# Altium schematic symbol library IC.SchLib: 67 symbols
Pins are listed as number, name and electrical type; pins without a type are passive.

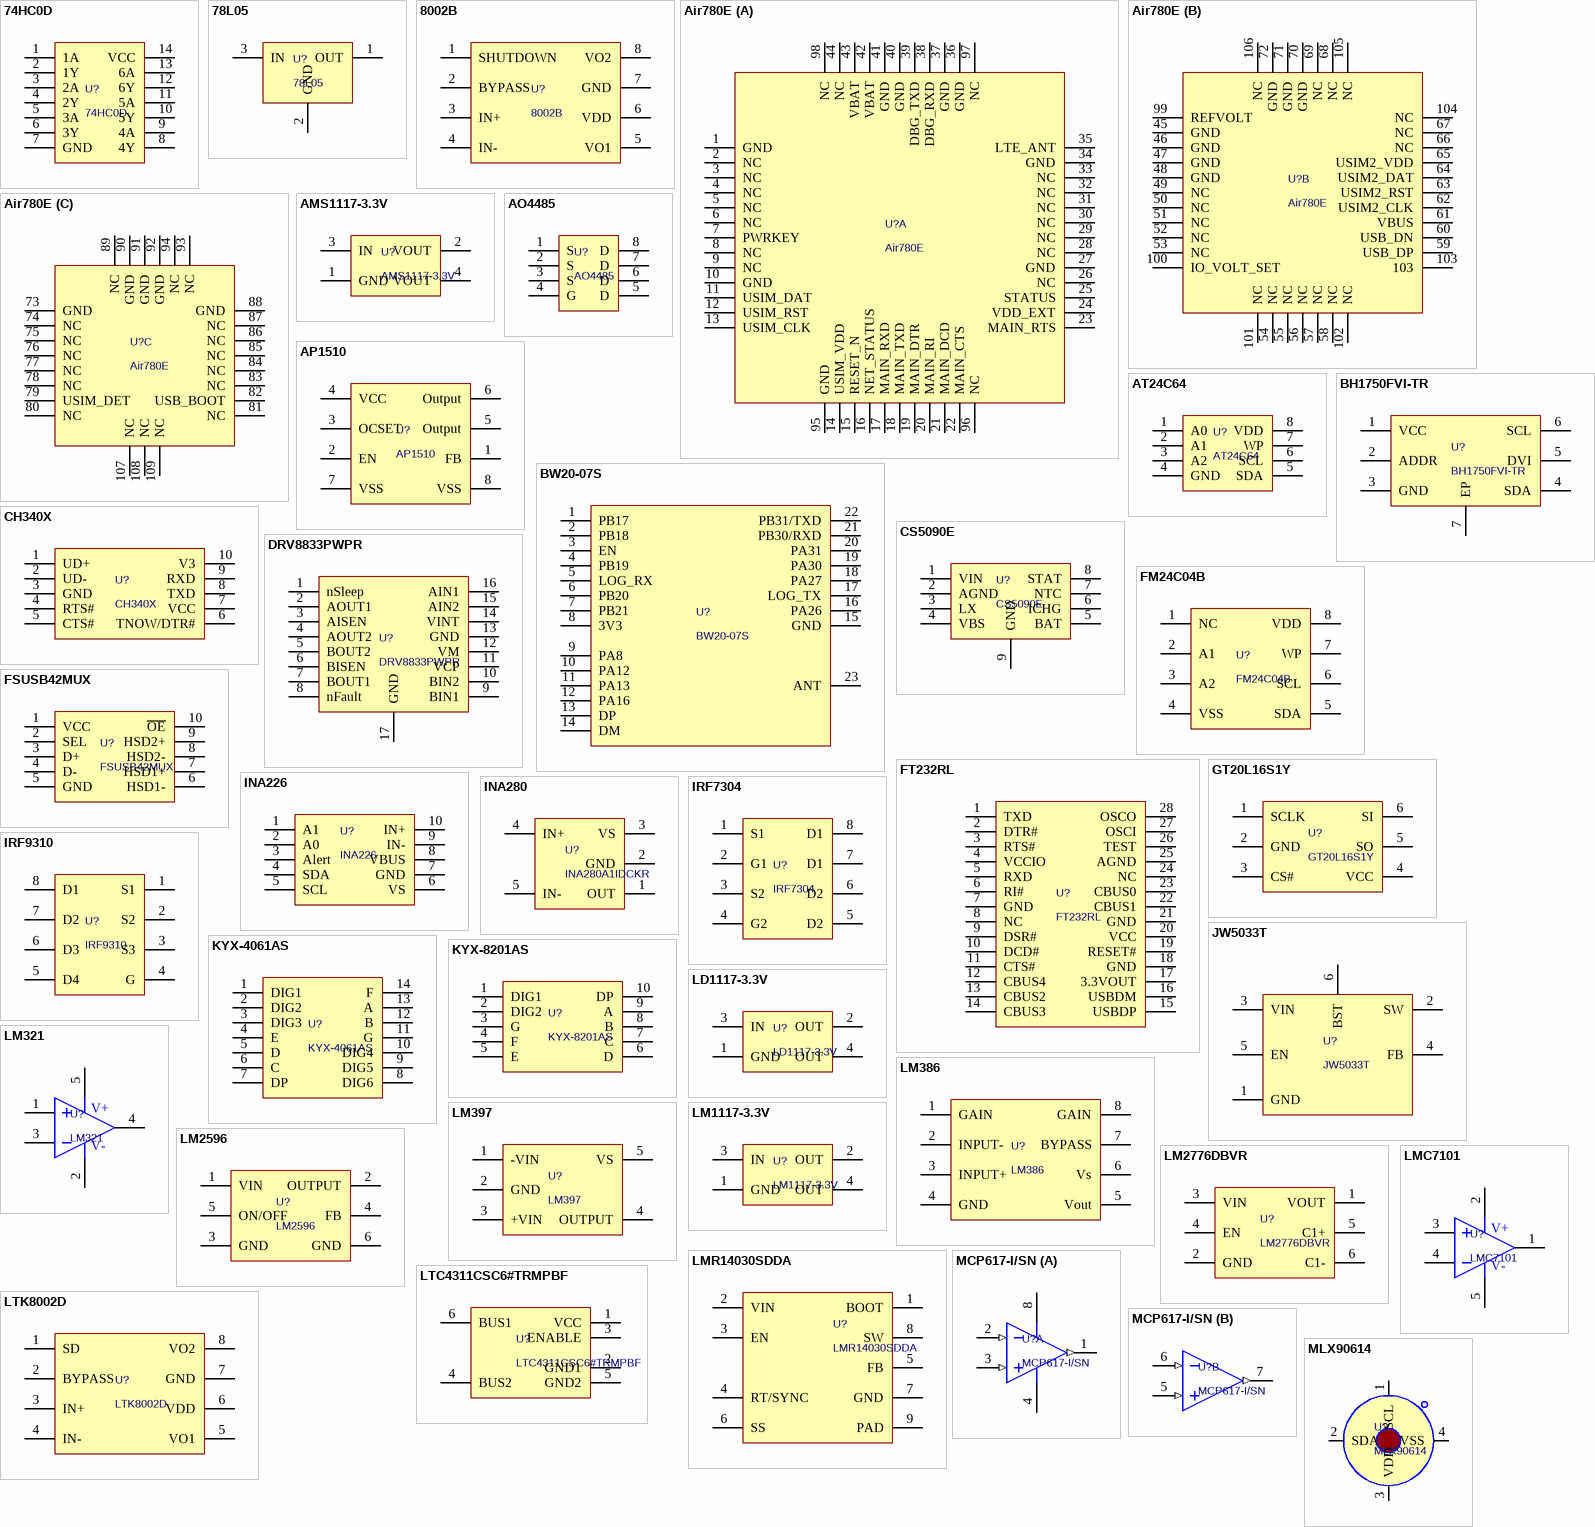
[diagram p0: symbols 74HC0D to MLX90614]

## 74HC0D
designator U?
反相器; Value_Footprint: SOIC-14; Value: 74HC0D; State: *; ComponentLink1Description: DataSheet; ComponentLink1URL: https://item.szlcsc.com/datasheet/74HC04D%252C653/6041.html?spm=sc.gb.xds.a___sc.gb.hd.ss&lcsc_vid=QVIKAgBVFVddAQYCE1ZcA1QDEVhYVwUFTlcIU11UT1QxVlNST1VWXlBXRFBcXjtW
footprint SOT-89-3
footprint SOIC-14
pins: 1 1A, 2 1Y, 3 2A, 4 2Y, 5 3A, 6 3Y, 7 GND, 8 4Y, 9 4A, 10 5Y, 11 5A, 12 6Y, 13 6A, 14 VCC

## 78L05
designator U?
LDO-5V; Value_Footprint: SOT-89-3; Value: 78L05; State: *; ComponentLink1Description: DataSheet; ComponentLink1URL: https://item.szlcsc.com/datasheet/78L05/323918.html
footprint SOT-89-3
pins: 1 OUT, 2 GND, 3 IN

## 8002B
designator U?
AB类功放; Value_Footprint: SOP-8; Value: 8002B; State: *; ComponentLink1Description: DataSheet; ComponentLink1URL: https://item.szlcsc.com/datasheet/8002B/309703.html
footprint SOP-8
pins: 1 SHUTDOWN, 2 BYPASS, 3 IN+, 4 IN-, 5 VO1, 6 VDD, 7 GND, 8 VO2

## Air780E
designator U?
合宙云Air780E; Value: Air780E; State: *; Value_Footprint: Air780E; ComponentLink1Description: DataSheet; ComponentLink1URL: https://docs.openluat.com/air780e/
footprint Air780E
part A pins: 1 GND, 2 NC, 3 NC, 4 NC, 5 NC, 6 NC, 7 PWRKEY, 8 NC, 9 NC, 10 GND, 11 USIM_DAT, 12 USIM_RST, 13 USIM_CLK, 14 USIM_VDD, 15 RESET_N, 16 NET_STATUS, 17 MAIN_RXD, 18 MAIN_TXD, 19 MAIN_DTR, 20 MAIN_RI, 21 MAIN_DCD, 22 MAIN_CTS, 23 MAIN_RTS, 24 VDD_EXT, 25 STATUS, 26 NC, 27 GND, 28 NC, 29 NC, 30 NC, 31 NC, 32 NC, 33 NC, 34 GND, 35 LTE_ANT, 36 GND, 37 GND, 38 DBG_RXD, 39 DBG_TXD, 40 GND, 41 GND, 42 VBAT, 43 VBAT, 44 NC, 95 GND, 96 NC, 97 NC, 98 NC
part B pins: 45 GND, 46 GND, 47 GND, 48 GND, 49 NC, 50 NC, 51 NC, 52 NC, 53 NC, 54 NC, 55 NC, 56 NC, 57 NC, 58 NC, 59 USB_DP, 60 USB_DN, 61 VBUS, 62 USIM2_CLK, 63 USIM2_RST, 64 USIM2_DAT, 65 USIM2_VDD, 66 NC, 67 NC, 68 NC, 69 NC, 70 GND, 71 GND, 72 GND, 99 REFVOLT, 100 IO_VOLT_SET, 101 NC, 102 NC, 103, 104 NC, 105 NC, 106 NC
part C pins: 73 GND, 74 NC, 75 NC, 76 NC, 77 NC, 78 NC, 79 USIM_DET, 80 NC, 81 NC, 82 USB_BOOT, 83 NC, 84 NC, 85 NC, 86 NC, 87 NC, 88 GND, 89 NC, 90 GND, 91 GND, 92 GND, 93 NC, 94 NC, 107 NC, 108 NC, 109 NC

## AMS1117-3.3V
designator U?
LDO-3V3; Value_Footprint: SOT-223; Value: AMS1117-3.3V; State: *; ComponentLink1Description: DataSheet; ComponentLink1URL: https://item.szlcsc.com/datasheet/AMS1117-3.3V/5706124.html
footprint SOT-223-3
pins: 1 GND, 2 VOUT, 3 IN, 4 VOUT

## AO4485
designator U?
PMOS; Value_Footprint: SOP-8; Value: AO4485; State: *; ComponentLink1Description: DataSheet; ComponentLink1URL: https://item.szlcsc.com/datasheet/AO4485/52512.html?spm=sc.cid.xds.a___sc.gb.xh1.zy.l&lcsc_vid=RVMPXlFWT1ZYBVAARlFWUlRWEVVfVAdWQQcNVwVVFQQxVlNSRlFZV1xVR1JdUTtW
footprint SOP-8
pins: 1 S, 2 S, 3 S, 4 G, 5 D, 6 D, 7 D, 8 D

## AP1510
designator U?
DC-DC; Value_Footprint: SO-8; Value: AP1510; State: *; ComponentLink1Description: DataSheet; ComponentLink1URL: https://item.szlcsc.com/datasheet/AP1510SG-13/532982.html
footprint SO-8
pins: 1 FB, 2 EN, 3 OCSET, 4 VCC, 5 Output, 6 Output, 7 VSS, 8 VSS

## AT24C64
designator U?
EEPROM; Value_Footprint: SOP-8; Value: AT24C64; State: *; ComponentLink1Description: DataSheet; ComponentLink1URL: https://atta.szlcsc.com/upload/public/pdf/source/20230919/9E697A72AB35897169BECDE1C243D87A.pdf
footprint SOP-8
pins: 1 A0, 2 A1, 3 A2, 4 GND, 5 SDA, 6 SCL, 7 WP, 8 VDD

## BH1750FVI-TR
designator U?
环境光Sensor; Value_Footprint: WSOF-6; Value: BH1750FVI-TR; State: *; ComponentLink1Description: DataSheet; ComponentLink1URL: https://atta.szlcsc.com/upload/public/pdf/source/20160723/1469258984787.pdf
footprint WSOF-6
pins: 1 VCC, 2 ADDR, 3 GND, 4 SDA, 5 DVI, 6 SCL, 7 EP

## BW20-07S
designator U?
wifi&蓝牙双模; Value_Footprint: SMD; Value: BW20-07S; State: *; ComponentLink1Description: DataSheet; ComponentLink1URL: https://docs.ai-thinker.com/rtl87xx
footprint BW20-07S
pins: 1 PB17, 2 PB18, 3 EN, 4 PB19, 5 LOG_RX, 6 PB20, 7 PB21, 8 3V3, 9 PA8, 10 PA12, 11 PA13, 12 PA16, 13 DP, 14 DM, 15 GND, 16 PA26, 17 LOG_TX, 18 PA27, 19 PA30, 20 PA31, 21 PB30/RXD, 22 PB31/TXD, 23 ANT

## CH340X
designator U?
USB转换芯片; Value_Footprint: MSOP-10; Value: CH340X; State: *; ComponentLink1Description: DataSheet; ComponentLink1URL: https://item.szlcsc.com/datasheet/CH340X/3584030.html?spm=sc.gbn.xds.a___sc.gbn.hd.ss&lcsc_vid=QVIKAgBVFVddAQYCE1ZcA1QDEVhYVwUFTlcIU11UT1QxVlNTR1hXVVFWT1dZUztW
footprint MSOP-10
pins: 1 UD+, 2 UD-, 3 GND, 4 RTS#, 5 CTS#, 6 TNOW/DTR#, 7 VCC, 8 TXD, 9 RXD, 10 V3

## CS5090E
designator U?
升压锂电池充电IC; Value_Footprint: SOP-8-EP; Value: CS5090E; State: *; ComponentLink1Description: DataSheet; ComponentLink1URL: http://m.szczkjgs.com/products_3834.htm
footprint SOP-8-EP
pins: 1 VIN, 2 AGND, 3 LX, 4 VBS, 5 BAT, 6 ICHG, 7 NTC, 8 STAT, 9 GND

## DRV8833PWPR
designator U?
步进电机驱动; Value_Footprint: TSSOP-16-EP; Value: DRV8833PWPR; State: *; ComponentLink1Description: DataSheet; ComponentLink1URL: https://www.ti.com/cn/lit/ds/symlink/drv8833.pdf?ts=1751263447587&ref_url=https%253A%252F%252Fitem.szlcsc.com%252F
footprint TSSOP-16-EP
pins: 1 nSleep, 2 AOUT1, 3 AISEN, 4 AOUT2, 5 BOUT2, 6 BISEN, 7 BOUT1, 8 nFault, 9 BIN1, 10 BIN2, 11 VCP, 12 VM, 13 GND, 14 VINT, 15 AIN2, 16 AIN1, 17 GND

## FM24C04B
designator U?
温度Sensor; Value_Footprint: SOIC-8-150mil; Value: FM24C04B; State: *; ComponentLink1Description: DataSheet; ComponentLink1URL: https://item.szlcsc.com/datasheet/FM24C04B-GTR/10356.html
footprint SOIC-8-150mil
pins: 1 NC, 2 A1, 3 A2, 4 VSS, 5 SDA, 6 SCL, 7 WP, 8 VDD

## FSUSB42MUX
designator U?
多路复用器; Value_Footprint: MSOP-10; Value: FSUSB42MUX; State: *; ComponentLink1Description: DataSheet; ComponentLink1URL: https://atta.szlcsc.com/upload/public/pdf/source/20130225/1457706594597.pdf
footprint MSOP-10
pins: 1 VCC, 2 SEL, 3 D+, 4 D-, 5 GND, 6 HSD1-, 7 HSD1+, 8 HSD2-, 9 HSD2+, 10 ~{OE}

## FT232RL
designator U?
USB转UART; Value_Footprint: SSOP-28-208mil; Value: FT232RL; State: *; ComponentLink1Description: DataSheet; ComponentLink1URL: https://atta.szlcsc.com/upload/public/pdf/source/20200318/C490691_690E4DF63E1AFF9F26AE376DE8985AE3.pdf
footprint SSOP-28-208mil
pins: 1 TXD, 2 DTR#, 3 RTS#, 4 VCCIO, 5 RXD, 6 RI#, 7 GND, 8 NC, 9 DSR#, 10 DCD#, 11 CTS#, 12 CBUS4, 13 CBUS2, 14 CBUS3, 15 USBDP, 16 USBDM, 17 3.3VOUT, 18 GND, 19 RESET#, 20 VCC, 21 GND, 22 CBUS1, 23 CBUS0, 24 NC, 25 AGND, 26 TEST, 27 OSCI, 28 OSCO

## GT20L16S1Y
designator U?
字库; Value_Footprint: SOT-23-6; Value: GT20L16S1Y; State: *; ComponentLink1Description: DataSheet; ComponentLink1URL: https://item.szlcsc.com/datasheet/GT20L16S1Y/88017.html
footprint SOT-23-6
pins: 1 SCLK, 2 GND, 3 CS#, 4 VCC, 5 SO, 6 SI

## INA226
designator U?
电流感应放大器; Value_Footprint: MSOP-10; Value: INA226; State: *; ComponentLink1Description: DataSheet; ComponentLink1URL: https://www.ti.com/cn/lit/ds/symlink/ina226.pdf?ts=1700096903619&ref_url=https%253A%252F%252Fso.szlcsc.com%252F
footprint MSOP-10
pins: 1 A1, 2 A0, 3 Alert, 4 SDA, 5 SCL, 6 VS, 7 GND, 8 VBUS, 9 IN-, 10 IN+

## INA280
designator U?, comment INA280A1IDCKR
电流感应放大器; Value_Footprint: SC-70-5; Value: INA280A1IDCKR; State: *; ComponentLink1Description: DataSheet; ComponentLink1URL: https://www.ti.com/cn/lit/ds/symlink/ina280.pdf?ts=1703044419089&ref_url=https%253A%252F%252Fso.szlcsc.com%252F
footprint SC-70-5
pins: 1 OUT, 2 GND, 3 VS, 4 IN+, 5 IN-

## IRF7304
designator U?
双沟道P-MOS; Value_Footprint: SOP-8; Value: IRF7304; State: *; ComponentLink1Description: DataSheet; ComponentLink1URL: https://atta.szlcsc.com/upload/public/pdf/source/20190819/C413495_9A3C8F37797B9BB4362DB44F93925947.pdf
footprint SOP-8
pins: 1 S1, 2 G1, 3 S2, 4 G2, 5 D2, 6 D2, 7 D1, 8 D1

## IRF9310
designator U?
单沟道P-MOS; Value_Footprint: SOP-8; Value: IRF9310; State: *; ComponentLink1Description: DataSheet; ComponentLink1URL: https://atta.szlcsc.com/upload/public/pdf/source/20231109/8B80510B8986664F41BF5C5829821B45.pdf
footprint SOP-8
pins: 1 S1, 2 S2, 3 S3, 4 G, 5 D4, 6 D3, 7 D2, 8 D1

## JW5033T
designator U?
DC-DC; Value_Footprint: TSOT-23-6; Value: JW5033T; State: *; ComponentLink1Description: DataSheet; ComponentLink1URL: https://item.szlcsc.com/datasheet/JW5033T/248926.html?spm=sc.gb.xds.a___sc.gb.hd.ss&lcsc_vid=QVIKAgBVFVddAQYCE1ZcA1QDEVhYVwUFTlcIU11UT1QxVlNSQFZWXl1WTlRfVjsOAxUeFF5JWBYZEEoVDQ0NFAdIFA4DSA%3D%3D
footprint TSOT-23-6
footprint TSOT-23-6
pins: 1 GND, 2 SW, 3 VIN, 4 FB, 5 EN, 6 BST

## KYX-4061AS
designator U?
6位数码管0.4英寸; Value_Footprint: DIP-14; Value: KYX-4061AS; State: *; ComponentLink1Description: DataSheet; ComponentLink1URL: https://item.taobao.com/item.htm?id=707846884960
pins: 1 DIG1, 2 DIG2, 3 DIG3, 4 E, 5 D, 6 C, 7 DP, 8 DIG6, 9 DIG5, 10 DIG4, 11 G, 12 B, 13 A, 14 F

## KYX-8201AS
designator U?
2位数码管0.8英寸; Value_Footprint: DIP-14; Value: KYX-8201AS; State: *; ComponentLink1Description: DataSheet; ComponentLink1URL: https://item.taobao.com/item.htm?id=35442677165
pins: 1 DIG1, 2 DIG2, 3 G, 4 F, 5 E, 6 D, 7 C, 8 B, 9 A, 10 DP

## LD1117-3.3V
designator U?
LDO-3V3; Value_Footprint: SOT-223-3; Value: LD1117-3.3V; State: *; ComponentLink1Description: DataSheet; ComponentLink1URL: https://item.szlcsc.com/datasheet/LD1117S33CTR/36855.html
footprint SOT-223-3
pins: 1 GND, 2 OUT, 3 IN, 4 OUT

## LM321
designator U?
运放; Value_Footprint: SOT-23-5; Value: LM321; State: *; ComponentLink1Description: DataSheet; ComponentLink1URL: https://www.ti.com/cn/lit/ds/symlink/lm321.pdf?ts=1749603008196
footprint SOT-23-5
pins: 1 IN+ (power), 2 V- (power), 3 IN- (power), 4 OUT (power), 5 V+ (power)

## LM386
designator U?
AB类功放; Value_Footprint: SOIC-8-150mil; Value: LM386; State: *; ComponentLink1Description: DataSheet; ComponentLink1URL: https://www.ti.com/cn/lit/ds/symlink/lm386.pdf?ts=1741046550326&ref_url=https%253A%252F%252Fso.szlcsc.com%252F
footprint SOIC-8
pins: 1 GAIN, 2 INPUT-, 3 INPUT+, 4 GND, 5 Vout, 6 Vs, 7 BYPASS, 8 GAIN

## LM397
designator U?
比较器; Value_Footprint: SOT-23-5; Value: LM397; State: *; ComponentLink1Description: DataSheet; ComponentLink1URL: https://www.ti.com/cn/lit/ds/symlink/lm397.pdf?ts=1748850122112&ref_url=https%253A%252F%252Fso.szlcsc.com%252F
footprint SOT-23-5
pins: 1 -VIN, 2 GND, 3 +VIN, 4 OUTPUT, 5 VS

## LM1117-3.3V
designator U?
LDO-3V3; Value_Footprint: SOT-223-3; Value: LM1117-3.3V; State: *; ComponentLink1Description: DataSheet; ComponentLink1URL: https://www.ti.com/cn/lit/ds/symlink/lm1117.pdf?ts=1699403315756&ref_url=https%253A%252F%252Fso.szlcsc.com%252F
footprint SOT-223-3
pins: 1 GND, 2 OUT, 3 IN, 4 OUT

## LM2596
designator U?
DC-DC; Value_Footprint: TO-263-5; Value: LM2596; State: *; ComponentLink1Description: DataSheet; ComponentLink1URL: https://www.ti.com/cn/lit/ds/symlink/lm2596.pdf?ts=1740638311012&ref_url=https%253A%252F%252Fwww.ti.com%252Fproduct%252Fzh-cn%252FLM2596%253FkeyMatch%253DLM2596%2526tisearch%253Duniversal_search%2526usecase%253DGPN-ALT
footprint TO-263-5
pins: 1 VIN, 2 OUTPUT, 3 GND, 4 FB, 5 ON/OFF, 6 GND

## LM2776DBVR
designator U?
反相器; Value_Footprint: SOT-23-6; Value: LM2776DBVR; State: *; ComponentLink1Description: DataSheet; ComponentLink1URL: https://www.ti.com/cn/lit/ds/symlink/lm2776.pdf?ts=1700118889826&ref_url=https%253A%252F%252Fso.szlcsc.com%252F
footprint SOT-23-6
pins: 1 VOUT, 2 GND, 3 VIN, 4 EN, 5 C1+, 6 C1-

## LMC7101
designator U?
运放; Value_Footprint: SOT-23-5; Value: LMC7101; State: *; ComponentLink1Description: DataSheet; ComponentLink1URL: https://www.ti.com/cn/lit/ds/symlink/lmc7101.pdf?ts=1749709572332&ref_url=https%253A%252F%252Fso.szlcsc.com%252F
footprint SOT-23-5
pins: 1 OUT (power), 2 V+ (power), 3 IN+ (power), 4 IN- (power), 5 V- (power)

## LMR14030SDDA
designator U?
DC-DC; Value_Footprint: SO-8-EP; Value: LMR14030SDDA; State: *; ComponentLink1Description: DataSheet; ComponentLink1URL: https://www.ti.com/cn/lit/ds/symlink/lmr14030.pdf?ts=1703734262438&ref_url=https%253A%252F%252Flist.szlcsc.com%252F
footprint SO-8-EP
pins: 1 BOOT, 2 VIN, 3 EN, 4 RT/SYNC, 5 FB, 6 SS, 7 GND, 8 SW, 9 PAD

## LTC4311CSC6#TRMPBF
designator U?
信号中继器; Value_Footprint: SC-70-6; Value: LTC4311CSC6#TRMPBF; State: *; ComponentLink1Description: DataSheet; ComponentLink1URL: https://atta.szlcsc.com/upload/public/pdf/source/20200917/C688093_6F50F7943BC708E0A1A0977BB3FF79B5.pdf
footprint SC-70-6
pins: 1 VCC, 2 GND1, 3 ENABLE, 4 BUS2, 5 GND2, 6 BUS1

## LTK8002D
designator U?
AB类功放; Value_Footprint: SOP-8; Value: LTK8002D; State: *; ComponentLink1Description: DataSheet; ComponentLink1URL: https://www.semiee.com/file2/ab38f395d0f13b49c099b181d624ebbf/Ltkchip/Ltkchip-LTK8002D_CN_V1.8.pdf
footprint SOP-8
pins: 1 SD, 2 BYPASS, 3 IN+, 4 IN-, 5 VO1, 6 VDD, 7 GND, 8 VO2

## MCP617-I/SN
designator U?
双路运放; Value_Footprint: SOIC-8; Value: MCP617-I/SN; State: *; ComponentLink1Description: DataSheet; ComponentLink1URL: https://atta.szlcsc.com/upload/public/pdf/source/20210611/B67836F29D7BDE203E45645A40A58186.pdf
footprint SOIC-8
part A pins: 1 VOUTA (out), 2 VINA- (in), 3 VINA+ (in), 4 VSS (power), 8 VDD (power)
part B pins: 5 VINB+ (in), 6 VINB- (in), 7 VOUTB (out)

## MLX90614
designator U?
温度Sensor; Value_Footprint: TO-39-4; Value: MLX90614; State: *; ComponentLink1Description: DataSheet; ComponentLink1URL: https://atta.szlcsc.com/upload/public/pdf/source/20200318/C492243_14CC73DF6ABA6AF766A3466641F2E2B5.pdf
footprint TO_39_4_MLX90614
pins: 1 SCL, 2 SDA, 3 VDD, 4 VSS

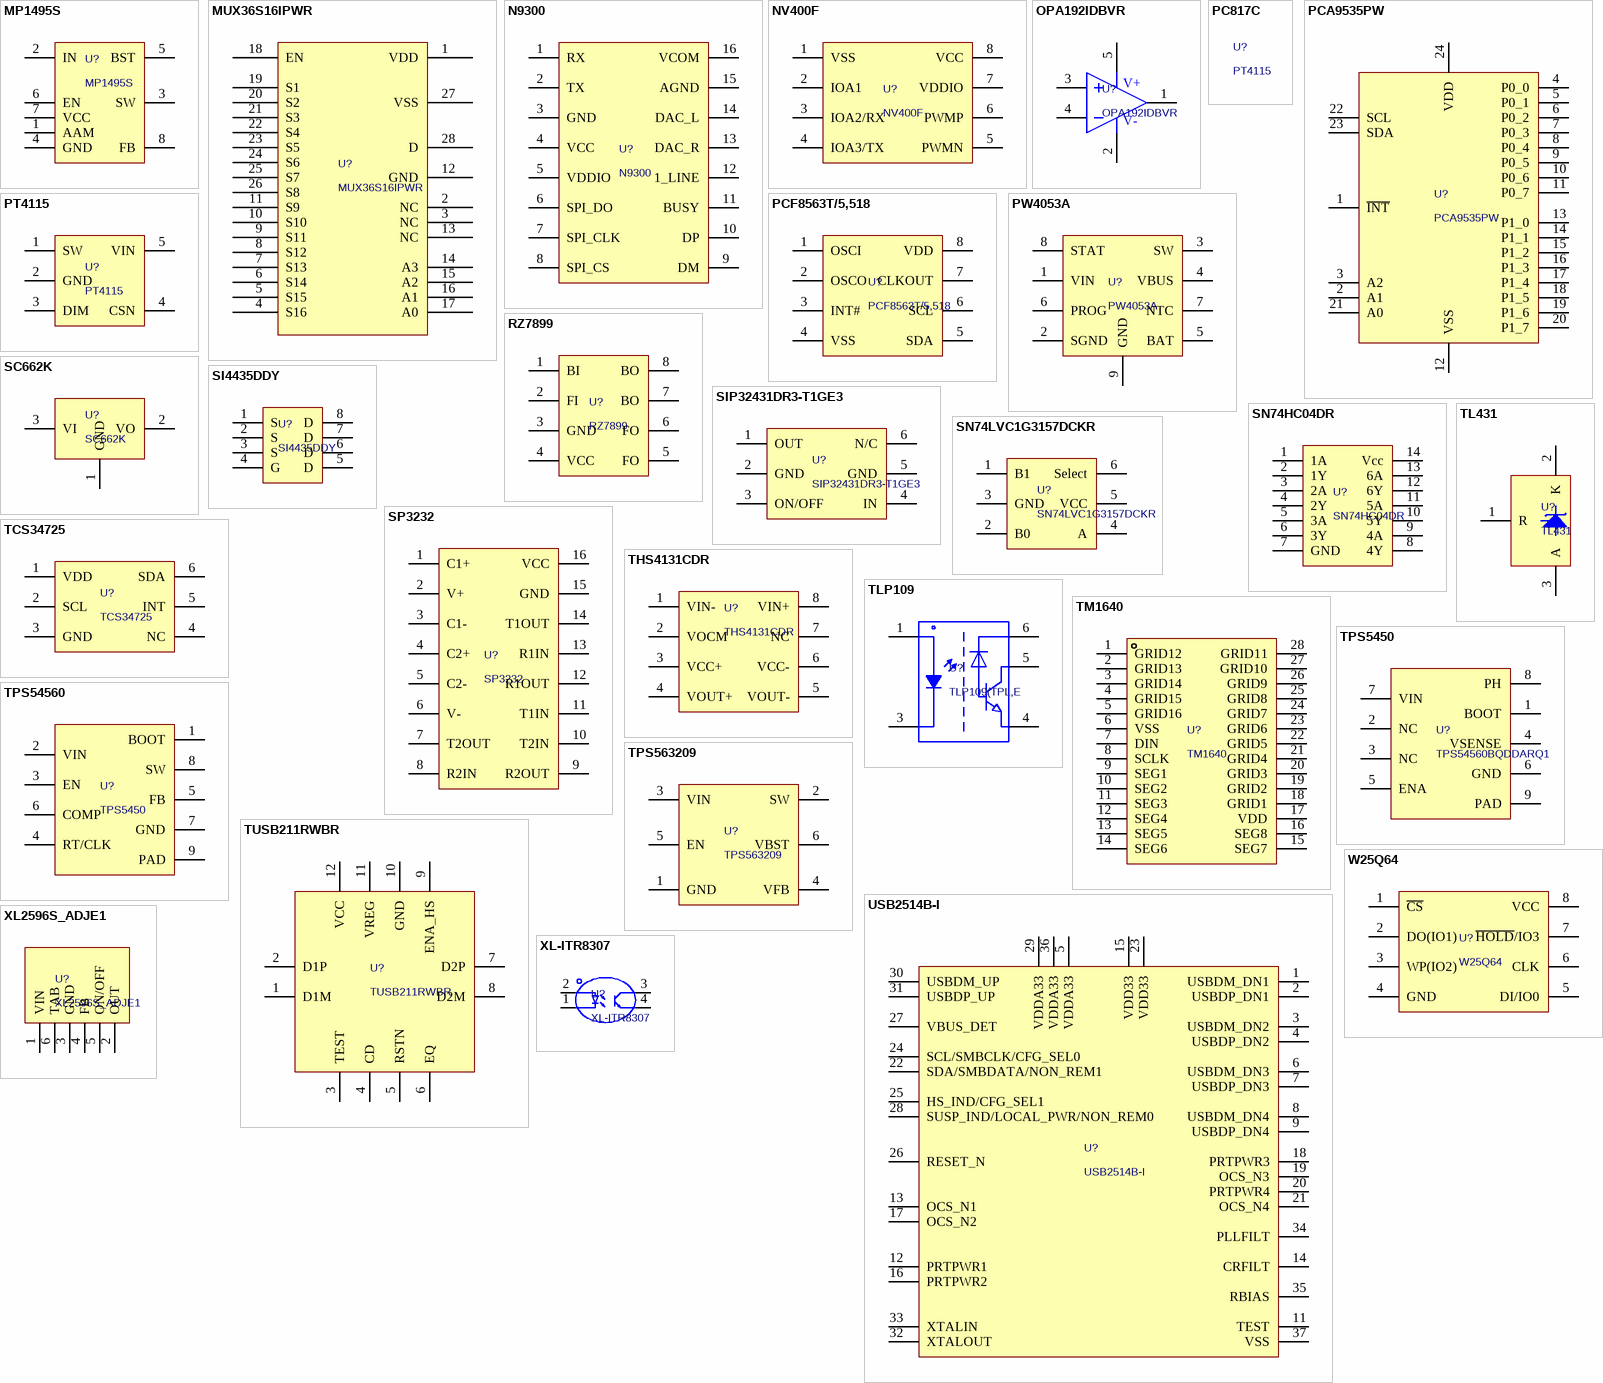
[diagram p1: symbols MP1495S to XL-ITR8307]

## MP1495S
designator U?
DC-DC; Value_Footprint: TSOT-23-8; Value: MP1495S; State: *; ComponentLink1Description: DataSheet; ComponentLink1URL: https://atta.szlcsc.com/upload/public/pdf/source/20240130/0683AD20DB573F5A3C2E240288B20C97.pdf
footprint TSOT-23-8
pins: 1 AAM, 2 IN, 3 SW, 4 GND, 5 BST, 6 EN, 7 VCC, 8 FB

## MUX36S16IPWR
designator U?
多路复用器; Value_Footprint: TSSOP-28; Value: MUX36S16IPWR; State: *; ComponentLink1Description: DataSheet; ComponentLink1URL: https://www.ti.com/cn/lit/ds/symlink/mux36d08.pdf?ts=1700121838735&ref_url=https%253A%252F%252Fso.szlcsc.com%252F
footprint TSSOP-28
pins: 1 VDD, 2 NC, 3 NC, 4 S16, 5 S15, 6 S14, 7 S13, 8 S12, 9 S11, 10 S10, 11 S9, 12 GND, 13 NC, 14 A3, 15 A2, 16 A1, 17 A0, 18 EN, 19 S1, 20 S2, 21 S3, 22 S4, 23 S5, 24 S6, 25 S7, 26 S8, 27 VSS, 28 D

## N9300
designator U?
MP3解析芯片; Value_Footprint: SOP-16; Value: N9300; State: *; ComponentLink1Description: DataSheet; ComponentLink1URL: https://item.taobao.com/item.htm?id=641551258107&pisk=gRl8_vDE8nxoL_c8o4JcKbg6bSTmJK0ru0u1tkqldmnxvVQoEJq3dWnZXJ1HU72L9mZmZu0uNywIxcMuVYqh9Xnq2_f3NDALAVk28u4oZwUIh0CnE4qoHwFriYf3q3PKRcVpjhAMs4uzQWtMj5uHiyP_Sy15xJ_bcW4Kn46l54uzTk_cAdDjzwUUu7bQRkTYGyUNdWw7PsNb0yf5PDZ7hiaT7WNIAu6bGyzgRyZ7VtTYWPa5Fzw7hsazJksSAWTvGozQOyiQOxhDeoQ7k6HwJjYDgKP5O6GYy-9mPoMsBe47eh08c69j1zKaf4ZAO6ZTAO1ik4xR_qVrocUiqI1-XVlqDri69nFE0viQJmONx7ki4fyxud1jo7E0CoG6GiUxMVD_uqp9kqhL2RG7HwfgG7UIAJH2X148ZxetwY8Fc4ig2ANr-NKokRHYQrwfJTNoIVcUCbORbo2aJ0qmfC1YGJszmfcO-QsgXyXWkEBFL8a2FrzcQZP6jm4YjUURL9yQurEMkEBFLJa4klY8y9WUdr5..&spm=tbpc.boughtlist.suborder_itemtitle.1.40502e8dm5RmIW&skuId=4607042892118
footprint SOP-16
footprint SOP-16
pins: 1 RX, 2 TX, 3 GND, 4 VCC, 5 VDDIO, 6 SPI_DO, 7 SPI_CLK, 8 SPI_CS, 9 DM, 10 DP, 11 BUSY, 12 1_LINE, 13 DAC_R, 14 DAC_L, 15 AGND, 16 VCOM

## NV400F
designator U?
九芯语音芯片; Value_Footprint: SOP-8; Value: NV400F; State: *; ComponentLink1Description: DataSheet; ComponentLink1URL: https://item.szlcsc.com/datasheet/NV400F/8439441.html?spm=sc.it.xds.a&lcsc_vid=RVMPXlFWT1ZYBVAARlFWUlRWEVVfVAdWQQcNVwVVFQQxVlNSRlFYX1ZeR1NdUzsOAxUeFF5JWBYZEEoBGA4JCwFIFA4DSA%3D%3D
footprint SOP-8
pins: 1 VSS, 2 IOA1, 3 IOA2/RX, 4 IOA3/TX, 5 PWMN, 6 PWMP, 7 VDDIO, 8 VCC

## OPA192IDBVR
designator U?
精密运放; Value_Footprint: SOT-23-5; Value: OPA192IDBVR; State: *; ComponentLink1Description: DataSheet; ComponentLink1URL: https://www.ti.com/cn/lit/ds/symlink/opa192.pdf?ts=1703816220072&ref_url=https%253A%252F%252Fso.szlcsc.com%252F
footprint SOT-23-5
pins: 1 OUT (power), 2 V- (power), 3 IN+ (power), 4 IN- (power), 5 V+ (power)

## PC817C
designator U?, comment PT4115
LED驱动; Value_Footprint: SMD-4P; Value: PT4115; State: *; ComponentLink1Description: DataSheet; ComponentLink1URL: https://atta.szlcsc.com/upload/public/pdf/source/20181213/C347356_53B4879F3B07AA7232DB5B3B76FA68B1.pdf
footprint SOP-8
footprint SOT-89-5

## PCA9535PW
designator U?
IO拓展; Value_Footprint: TSSOP-24; Value: PCA9535PW; State: *; ComponentLink1Description: DataSheet; ComponentLink1URL: https://atta.szlcsc.com/upload/public/pdf/source/20170914/C129517_1505360064978968280.pdf
footprint TSSOP-24
pins: 1 ~{INT}, 2 A1, 3 A2, 4 P0_0, 5 P0_1, 6 P0_2, 7 P0_3, 8 P0_4, 9 P0_5, 10 P0_6, 11 P0_7, 12 VSS, 13 P1_0, 14 P1_1, 15 P1_2, 16 P1_3, 17 P1_4, 18 P1_5, 19 P1_6, 20 P1_7, 21 A0, 22 SCL, 23 SDA, 24 VDD

## PCF8563T/5,518
designator U?
RTC时钟芯片; Value_Footprint: SOIC-8-150mil; Value: PCF8563T/5,518; State: *; ComponentLink1Description: DataSheet; ComponentLink1URL: https://www.nxp.com.cn/docs/zh/data-sheet/PCF8563.pdf
footprint SOIC-8-150mil
pins: 1 OSCI, 2 OSCO, 3 INT#, 4 VSS, 5 SDA, 6 SCL, 7 CLKOUT, 8 VDD

## PT4115
designator U?
LED驱动; Value_Footprint: SOT-89-5; Value: PT4115; State: *; ComponentLink1Description: DataSheet; ComponentLink1URL: https://atta.szlcsc.com/upload/public/pdf/source/20181213/C347356_53B4879F3B07AA7232DB5B3B76FA68B1.pdf
footprint SOP-8
footprint SOT-89-5
pins: 1 SW, 2 GND, 3 DIM, 4 CSN, 5 VIN

## PW4053A
designator U?
锂电池充电管理IC; Value_Footprint: SOP-8-EP; Value: PW4053A; State: *; ComponentLink1Description: DataSheet; ComponentLink1URL: https://www.semiee.com/file2/f7aad252538ea8ac521acca54a99e49d/PWCHIP/PWCHIP-PW4053A.pdf
footprint SOP-8-EP
pins: 1 VIN, 2 SGND, 3 SW, 4 VBUS, 5 BAT, 6 PROG, 7 NTC, 8 STAT, 9 GND

## RZ7899
designator U?
电机驱动; Value_Footprint: SOP-8; Value: RZ7899; State: *; ComponentLink1Description: DataSheet; ComponentLink1URL: https://item.szlcsc.com/datasheet/RZ7899-MS/24148603.html?spm=sc.gb.xds.a___sc.gb.hd.ss&lcsc_vid=RVMPXlFWT1ZYBVAARlFWUlRWEVVfVAdWQQcNVwVVFQQxVlNSRlNaX1dRQFBZUztW
footprint SOP-8
pins: 1 BI, 2 FI, 3 GND, 4 VCC, 5 FO, 6 FO, 7 BO, 8 BO

## SC662K
designator U?
LDO-3V3; Value_Footprint: SOT-23-3; Value: SC662K; State: *; ComponentLink1Description: DataSheet; ComponentLink1URL: https://atta.szlcsc.com/upload/public/pdf/source/20161024/1477288576049.pdf
footprint SOT-23-3
pins: 1 GND, 2 VO, 3 VI

## SI4435DDY
designator U?
单沟道P-MOS; Value_Footprint: SOP-8; Value: SI4435DDY; State: *; ComponentLink1Description: DataSheet; ComponentLink1URL: https://atta.szlcsc.com/upload/public/pdf/source/20230110/42A7CF08E1BD5009B85F681A89D959BD.pdf
footprint SOP-8
pins: 1 S, 2 S, 3 S, 4 G, 5 D, 6 D, 7 D, 8 D

## SIP32431DR3-T1GE3
designator U?
功率电子开关; Value_Footprint: SOT-363-6; Value: SIP32431DR3-T1GE3; State: *; ComponentLink1Description: DataSheet; ComponentLink1URL: https://atta.szlcsc.com/upload/public/pdf/source/20171123/C141606_15114109493051137588.pdf
footprint SOT-363
pins: 1 OUT, 2 GND, 3 ON/OFF, 4 IN, 5 GND, 6 N/C

## SN74HC04DR
designator U?
反相器; Value_Footprint: SOP-14; Value: SN74HC04DR; State: *; ComponentLink1Description: DataSheet; ComponentLink1URL: https://www.ti.com/cn/lit/ds/symlink/sn74hc04.pdf?ts=1736479090673&ref_url=https%253A%252F%252Fso.szlcsc.com%252F
footprint SOP-14
pins: 1 1A, 2 1Y, 3 2A, 4 2Y, 5 3A, 6 3Y, 7 GND, 8 4Y, 9 4A, 10 5Y, 11 5A, 12 6Y, 13 6A, 14 Vcc

## SN74LVC1G3157DCKR
designator U?
单刀双掷电子开关; Value_Footprint: SC-70-6; Value: SN74LVC1G3157DCKR; State: *; ComponentLink1Description: DataSheet; ComponentLink1URL: https://item.szlcsc.com/datasheet/SN74LVC1G3157DCKR/2773700.html?spm=sc.cid.xds.a___sc.gb.xh2.zy.l&lcsc_vid=RVMPXlFWT1ZYBVAARlFWUlRWEVVfVAdWQQcNVwVVFQQxVlNSR1ZXVlFQQFVZVjtW
footprint SC-70-6
pins: 1 B1, 2 B0, 3 GND, 4 A, 5 VCC, 6 Select

## SP3232
designator U?
TTL转232; Value_Footprint: TSSOP-16; Value: SP3232; State: *; ComponentLink1Description: DataSheet; ComponentLink1URL: https://item.szlcsc.com/datasheet/SP3232EEY-L%252FTR/14131.html?spm=sc.gb.xds.a&lcsc_vid=RVMPXlFWT1ZYBVAARlFWUlRWEVVfVAdWQQcNVwVVFQQxVlNSRllcX1BVQlRXVTsOAxUeFF5JWBYZEEoVDQ0NFAdIFA4DSA%3D%3D
footprint TSSOP-16
pins: 1 C1+, 2 V+, 3 C1-, 4 C2+, 5 C2-, 6 V-, 7 T2OUT, 8 R2IN, 9 R2OUT, 10 T2IN, 11 T1IN, 12 R1OUT, 13 R1IN, 14 T1OUT, 15 GND, 16 VCC

## TCS34725
designator U?
颜色传感器; Value_Footprint: WSOF-6; Value: TCS34725; State: *; ComponentLink1Description: DataSheet
footprint WSOF-6
pins: 1 VDD, 2 SCL, 3 GND, 4 NC, 5 INT, 6 SDA

## THS4131CDR
designator U?
差分运放; Value_Footprint: SOP-8; Value: THS4131CDR; State: *; ComponentLink1Description: DataSheet; ComponentLink1URL: https://www.ti.com/cn/lit/ds/symlink/ths4130.pdf?ts=1700123757832&ref_url=https%253A%252F%252Fso.szlcsc.com%252F
footprint SOP-8
pins: 1 VIN-, 2 VOCM, 3 VCC+, 4 VOUT+, 5 VOUT-, 6 VCC-, 7 NC, 8 VIN+

## TL431
designator U?
电压基准IC; Value_Footprint: SOT-23-3; Value: TL431; State: *; ComponentLink1Description: DataSheet; ComponentLink1URL: https://atta.szlcsc.com/upload/public/pdf/source/20230807/EF0970E00E6F0FAFB24359B08B49660E.pdf
footprint SOT-23-3
pins: 1 R, 2 K, 3 A

## TLP109
designator U?, comment TLP109(TPL,E
逻辑输出光耦; Value_Footprint: SOIC-5-4.4mm; Value: TLP109(TPL,E; State: *; ComponentLink1Description: DataSheet; ComponentLink1URL: https://item.szlcsc.com/datasheet/TLP109(TPL%252CE/394905.html?spm=sc.cid.xds.a___sc.gb.xh1.zy.l&lcsc_vid=RVMPXlFWT1ZYBVAARlFWUlRWEVVfVAdWQQcNVwVVFQQxVlNSRldbX1deQFBdVjtW
pins: 1 AN, 3 CA, 4 EM, 5 COL, 6 VCC

## TM1640
designator U?
数码管驱动IC; Value_Footprint: SOP-28; Value: TM1640; State: *; ComponentLink1Description: DataSheet; ComponentLink1URL: https://item.szlcsc.com/datasheet/TM1640(TA2103)/6103276.html?spm=sc.gb.xds.a___sc.gb.hd.ss&lcsc_vid=RwVZAV1eFAUIBldTEVdaAgJfEllcA1UDEgdeBVQAFFYxVlNSQ1BZUFJeTlRZUDsOAxUeFF5JWBYZEEoVDQ0NFAdIFA4DSA%3D%3D
footprint SOP-28
pins: 1 GRID12, 2 GRID13, 3 GRID14, 4 GRID15, 5 GRID16, 6 VSS, 7 DIN, 8 SCLK, 9 SEG1, 10 SEG2, 11 SEG3, 12 SEG4, 13 SEG5, 14 SEG6, 15 SEG7, 16 SEG8, 17 VDD, 18 GRID1, 19 GRID2, 20 GRID3, 21 GRID4, 22 GRID5, 23 GRID6, 24 GRID7, 25 GRID8, 26 GRID9, 27 GRID10, 28 GRID11

## TPS5450
designator U?, comment TPS54560BQDDARQ1
DC-DC; Value_Footprint: SOP-8-EP; Value: TPS54560BQDDARQ1; State: *; ComponentLink1Description: DataSheet; ComponentLink1URL: https://www.ti.com/cn/lit/ds/symlink/tps54560b-q1.pdf?ts=1712106668903&ref_url=https%253A%252F%252Flist.szlcsc.co
footprint SOP-8-EP
pins: 1 BOOT, 2 NC, 3 NC, 4 VSENSE, 5 ENA, 6 GND, 7 VIN, 8 PH, 9 PAD

## TPS54560
designator U?, comment TPS5450
DC-DC; Value_Footprint: SOP-8-EP; Value: TPS5450; State: *; ComponentLink1Description: DataSheet; ComponentLink1URL: https://www.ti.com/cn/lit/ds/symlink/tps5450.pdf?ts=1742342330860
footprint SOP-8-EP
pins: 1 BOOT, 2 VIN, 3 EN, 4 RT/CLK, 5 FB, 6 COMP, 7 GND, 8 SW, 9 PAD

## TPS563209
designator U?
DC-DC; Value_Footprint: SOT-23-6; Value: TPS563209; State: *; ComponentLink1Description: DataSheet; ComponentLink1URL: https://www.ti.com/cn/lit/ds/symlink/tps562209.pdf?ts=1740820339071&ref_url=https%253A%252F%252Fso.szlcsc.com%252F
footprint SOT-23-6
pins: 1 GND, 2 SW, 3 VIN, 4 VFB, 5 EN, 6 VBST

## TUSB211RWBR
designator U?
眼图芯片，USB2.0高速信号调节器; Value_Footprint: X2-QFN-12(1.6x1.6); Value: TUSB211RWBR; State: *; ComponentLink1Description: DataSheet; ComponentLink1URL: https://www.ti.com/cn/lit/ds/symlink/tusb211.pdf?ts=1699013569338&ref_url=https%253A%252F%252Fso
footprint X2QFN-12(1.6x1.6)
pins: 1 D1M, 2 D1P, 3 TEST, 4 CD, 5 RSTN, 6 EQ, 7 D2P, 8 D2M, 9 ENA_HS, 10 GND, 11 VREG, 12 VCC

## USB2514B-I
designator U?
USB HUB; Value_Footprint: SQFN-36-EP(6x6); Value: USB2514B-I; State: *; ComponentLink1Description: DataSheet; ComponentLink1URL: https://atta.szlcsc.com/upload/public/pdf/source/20180613/C220679_5406C825D415F058D3466663F78F68E9.pdf
pins: 1 USBDM_DN1, 2 USBDP_DN1, 3 USBDM_DN2, 4 USBDP_DN2, 5 VDDA33 (power), 6 USBDM_DN3, 7 USBDP_DN3, 8 USBDM_DN4, 9 USBDP_DN4, 11 TEST, 12 PRTPWR1, 13 OCS_N1, 14 CRFILT, 15 VDD33 (power), 16 PRTPWR2, 17 OCS_N2, 18 PRTPWR3, 19 OCS_N3, 20 PRTPWR4, 21 OCS_N4, 22 SDA/SMBDATA/NON_REM1, 23 VDD33 (power), 24 SCL/SMBCLK/CFG_SEL0, 25 HS_IND/CFG_SEL1, 26 RESET_N (power), 27 VBUS_DET (power), 28 SUSP_IND/LOCAL_PWR/NON_REM0, 29 VDDA33 (power), 30 USBDM_UP, 31 USBDP_UP, 32 XTALOUT (power), 33 XTALIN (power), 34 PLLFILT, 35 RBIAS, 36 VDDA33 (power), 37 VSS (power)

## W25Q64
designator U?
NOR Flash; Value_Footprint: SOIC-8-208mil; Value: W25Q64; State: *; ComponentLink1Description: DataSheet; ComponentLink1URL: https://item.szlcsc.com/datasheet/W25Q64JVSSIQ/190565.html?spm=sc.gb.xds.a___sc.gb.hd.ss&lcsc_vid=E1BdX1deQAdbXwFTFgIPVFBfQABdA1AFRVdfAV0HTgIxVlNSRlhfUVdfQVdaUTsOAxUeFF5JWBYZEEoVDQ0NFAdIFA4DSA%3D%3D
footprint SOIC-8
footprint SOIC-8-208mil
pins: 1 ~{CS}, 2 DO(IO1), 3 WP(IO2), 4 GND, 5 DI/IO0, 6 CLK, 7 ~{HOLD}/IO3, 8 VCC

## XL2596S_ADJE1
designator U?
DC-DC; Value_Footprint: TO-263-5; Value: XL2596S_ADJE1; State: *; ComponentLink1Description: DataSheet; ComponentLink1URL: https://atta.szlcsc.com/upload/public/pdf/source/20160525/1464169836521.pdf
footprint TO-263-5
pins: 1 VIN, 2 OUT, 3 GND, 4 FB, 5 ON/OFF, 6 TAB

## XL-ITR8307
designator U?
Value: XL-ITR8307; State: *; Value_Footprint: ITR8307; ComponentLink1Description: DataSheet; ComponentLink1URL: https://item.szlcsc.com/datasheet/XL-ITR8307/8657543.html?spm=sc.gbn.xds.a___sc.hm.hd.ss&lcsc_vid=Q1ULVVVUEVgIUwVRTlcMAwFTRwBeVVEEQ1FXV1NWR1YxVlNTRVFbVVdXRVRdVjtW
footprint XL-ITR8307
pins: 1 C, 2 A, 3 C, 4 E